# Altium integrated library SEMTECH.IntLib: 1 symbol
Pins are listed as number, name and electrical type; pins without a type are passive.

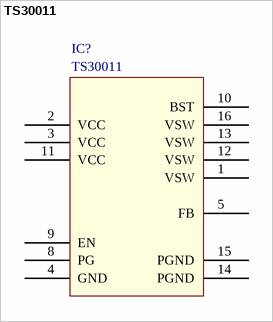
[diagram p0: symbol TS30011]

## TS30011
designator IC?
footprint QFN50P300X300X100_HS-17M (QFN, 16-Leads, Body 3,00x3,00mm, Pitch 0,50mm, Thermal Pad 1,68x1,68mm, IPC Low Density)
pins: 1 VSW, 2 VCC, 3 VCC, 4 GND, 5 FB, 8 PG, 9 EN, 10 BST, 11 VCC, 12 VSW, 13 VSW, 14 PGND, 15 PGND, 16 VSW